# Altium footprint library CWX.PcbLib: 19 footprints (part 2 of 2)
Each footprint in its own frame and in the unit in brackets; x right, y up, seen from the top. Pads: shape width x height; smd on the part's side, far side on the other; paste and mask are expansions set on the pad; w line width, h text height; cw(c..) or ccw(c..) is an arc to the next point about the centre after c.
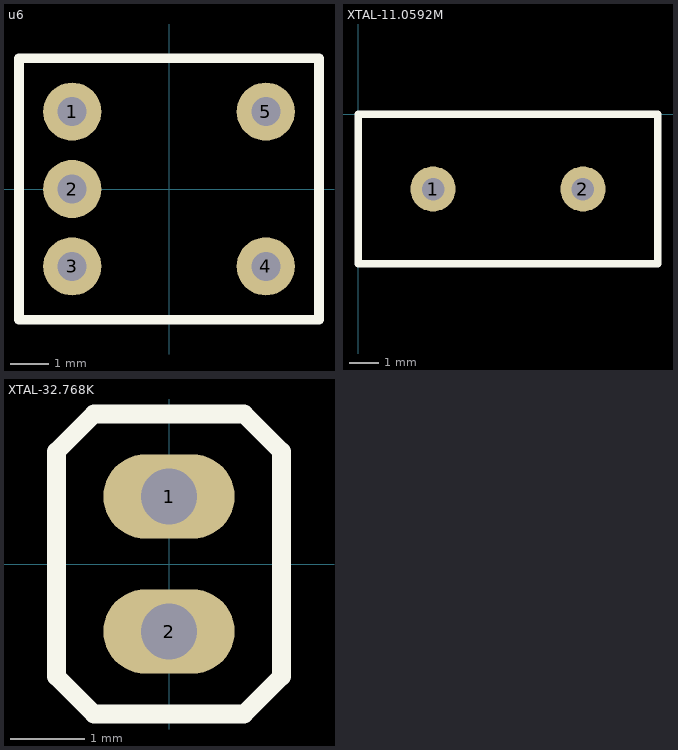
[diagram p1: the footprints below, top view; thin cyan lines are the x and y axes]

## u6 [mil]
pads (5):
  round 60 hole 30: 1(-100,80) 2(-100,0) 3(-100,-80) 4(100,-80) 5(100,80)
Top Overlay:
  lines w10: -155,-135 155,-135 155,135 -155,135 -155,-135

## XTAL-11.0592M [mil]
pads (2):
  round 60 hole 30: 1(100,-100) 2(300,-100)
Top Overlay:
  lines w10: 0,-200 400,-200 400,0 0,0 0,-200

## XTAL-32.768K [mil]
pads (2):
  oval 70x45 hole 30: 1(0,36) 2(0,-36)
Top Overlay:
  lines w10: -60,-60 -40,-80 40,-80 60,-60 60,60 40,80 -40,80 -60,60 -60,-60